# EAGLE library part IC-AVR-ATMEGA*4- (library mylib)
8-bit Microcontroller with 64K Bytes In-System Programmable Flash Source: http://www.atmel.com/dyn/resources/prod_documents/doc2593.pdf
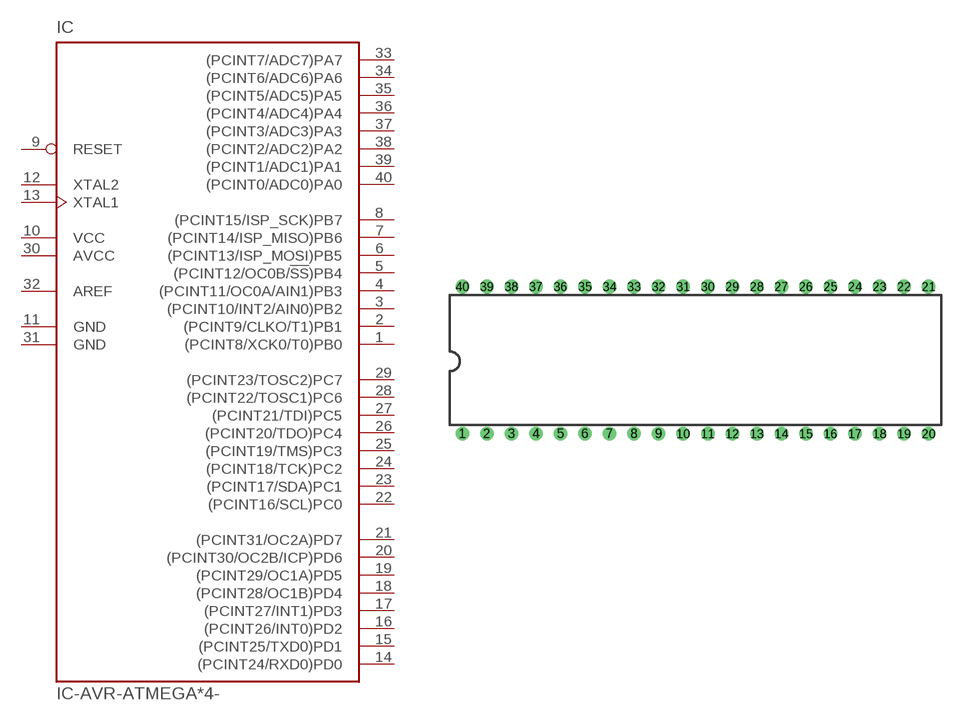
[diagram p51: symbol with the pads of IC-SOCKET-DIL-40-600MIL; footprint IC-SOCKET-DIL-40-600MIL]

Designator prefix IC

## IC-AVR-ATMEGA164--DIP, IC-AVR-ATMEGA324--DIP, IC-AVR-ATMEGA644--DIP  [IC-SOCKET-DIL-40-600MIL]
1  (PCINT8/XCK0/T0)PB0
2  (PCINT9/CLKO/T1)PB1
3  (PCINT10/INT2/AIN0)PB2
4  (PCINT11/OC0A/AIN1)PB3
5  (PCINT12/OC0B/!SS!)PB4
6  (PCINT13/ISP_MOSI)PB5
7  (PCINT14/ISP_MISO)PB6
8  (PCINT15/ISP_SCK)PB7
9  RESET  in
10  VCC  pwr
11  GND  pwr
12  XTAL2
13  XTAL1
14  (PCINT24/RXD0)PD0
15  (PCINT25/TXD0)PD1
16  (PCINT26/INT0)PD2
17  (PCINT27/INT1)PD3
18  (PCINT28/OC1B)PD4
19  (PCINT29/OC1A)PD5
20  (PCINT30/OC2B/ICP)PD6
21  (PCINT31/OC2A)PD7
22  (PCINT16/SCL)PC0  out
23  (PCINT17/SDA)PC1  out
24  (PCINT18/TCK)PC2  out
25  (PCINT19/TMS)PC3  out
26  (PCINT20/TDO)PC4  out
27  (PCINT21/TDI)PC5  out
28  (PCINT22/TOSC1)PC6  out
29  (PCINT23/TOSC2)PC7  out
30  AVCC  pwr
31  GND  pwr
32  AREF  pas
33  (PCINT7/ADC7)PA7
34  (PCINT6/ADC6)PA6
35  (PCINT5/ADC5)PA5
36  (PCINT4/ADC4)PA4
37  (PCINT3/ADC3)PA3
38  (PCINT2/ADC2)PA2
39  (PCINT1/ADC1)PA1
40  (PCINT0/ADC0)PA0

## Footprint IC-SOCKET-DIL-40-600MIL (pad centres in mm)
Dual In Line Package
drill 0.889: 1 -24.13,-7.62; 2 -21.59,-7.62; 3 -19.05,-7.62; 4 -16.51,-7.62; 5 -13.97,-7.62; 6 -11.43,-7.62; 7 -8.89,-7.62; 8 -6.35,-7.62; 9 -3.81,-7.62; 10 -1.27,-7.62; 11 1.27,-7.62; 12 3.81,-7.62; 13 6.35,-7.62; 14 8.89,-7.62; 15 11.43,-7.62; 16 13.97,-7.62; 17 16.51,-7.62; 18 19.05,-7.62; 19 21.59,-7.62; 20 24.13,-7.62; 21 24.13,7.62; 22 21.59,7.62; 23 19.05,7.62; 24 16.51,7.62; 25 13.97,7.62; 26 11.43,7.62; 27 8.89,7.62; 28 6.35,7.62; 29 3.81,7.62; 30 1.27,7.62; 31 -1.27,7.62; 32 -3.81,7.62; 33 -6.35,7.62; 34 -8.89,7.62; 35 -11.43,7.62; 36 -13.97,7.62; 37 -16.51,7.62; 38 -19.05,7.62; 39 -21.59,7.62; 40 -24.13,7.62